# EAGLE library part CAT24C32 (library quentin)
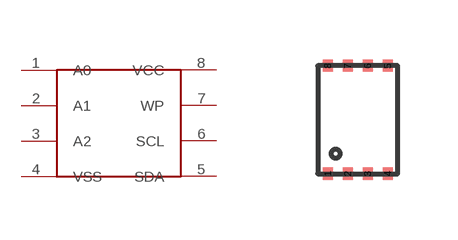
[diagram p7: symbol with the pads of UDFN-8; footprint UDFN-8]

Designator prefix -

## CAT24C32  [UDFN-8]
1  A0
2  A1
3  A2
4  VSS
5  SDA
6  SCL
7  WP
8  VCC

## Footprint UDFN-8 (pad centres in mm)
smd 0.25 x 0.3: 1 0,0; 2 0.5,0; 3 1,0; 4 1.5,0; 5 1.5,2.7; 6 1,2.7; 7 0.5,2.7; 8 0,2.7